# Altium schematic symbol library Diodes.SchLib: 37 symbols
Pins are listed as number, name and electrical type; pins without a type are passive.

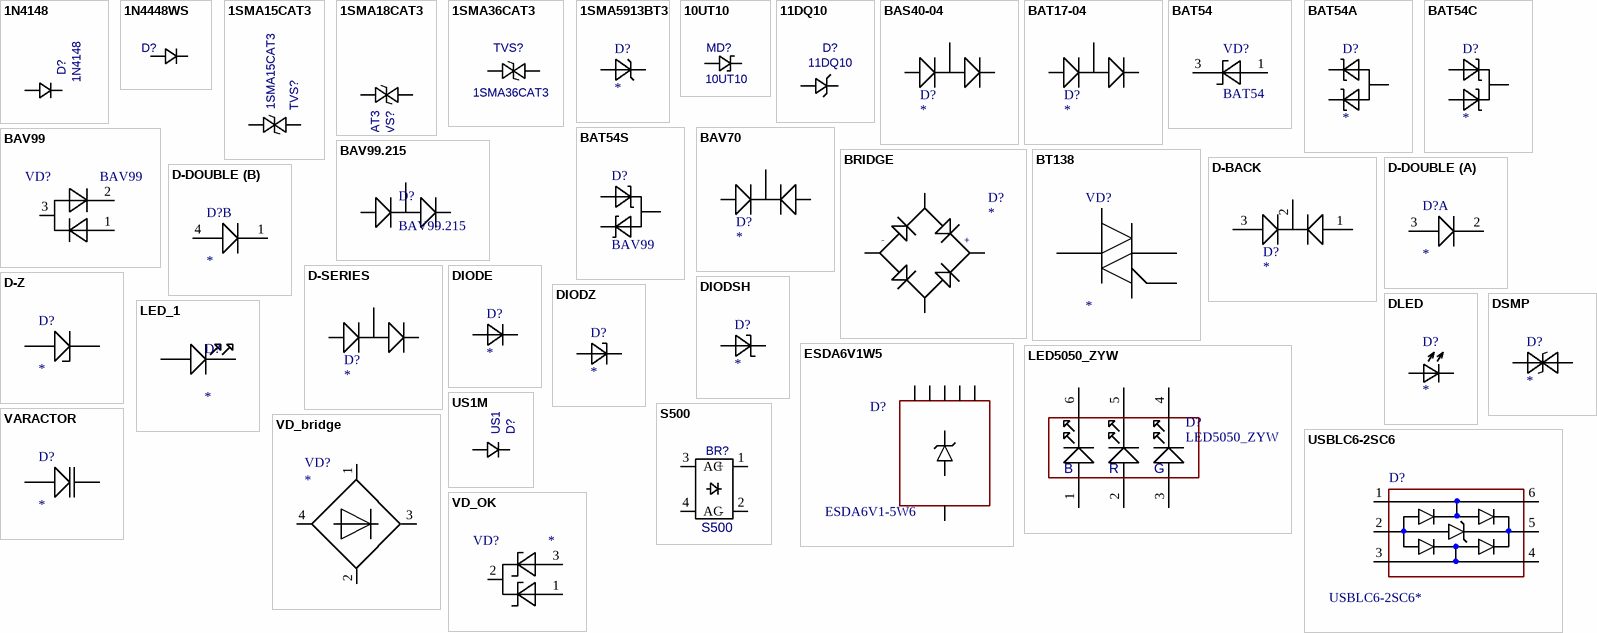
[diagram p0: symbols 1N4148 to VD_OK]

## 1N4148
designator D?
Value: *
footprint SOD80
pins: A, K

## 1N4448WS
designator D?  (value not drawn)
Value: *
footprint SOD323
pins: A, K

## 1SMA15CAT3
designator TVS?
Value: *
footprint SMA
pins: 1, 2

## 1SMA18CAT3
designator TVS?
Value: *
footprint SMA
pins: 1, 2

## 1SMA36CAT3
designator TVS?
Value: *
footprint SMA
pins: 1, 2

## 1SMA5913BT3
designator D?
Вид: Трансил; Voltage: 16V
footprint DO-214AC
pins: 1, 2

## 10UT10
designator MD?
Value: *
footprint RAD_I-PAK
pins: 1 A, 2 K, 3 A hidden, 4 hidden, 5 hidden

## 11DQ10
designator D?
Value: *
footprint DO-41
pins: 1 A, 2 K

## BAS40-04
designator D?
SHOTKI Cd<5pF; Вид: Діод
footprint SOT-23
footprint SOT-323
pins: 1 A1, 2 C2A1, 3 C2

## BAT17-04
designator D?
Вид: Діод
footprint SOT-23
footprint SOT-323
pins: 1, 2, 3

## BAT54
designator VD?
диод Шоттки (Vr=30V, If=200mA, Vf=0.8V@I=100mA, C=10.0pF@1MHz, -55 to +150C). SOT-23; Вид: Діод
footprint SOT23-3L (modify) (SOT23, 3-Leads, Body 2.9x1.3mm, Pitch 0.95mm, Lead Span 2.5mm, IPC High Density)
pins: 1 a, 2 NC hidden, 3 k

## BAT54A
designator D?
Вид: Діод
footprint SOT-23
pins: 1 A1, 2 C1C2, 3 A2

## BAT54C
designator D?
Вид: Діод
footprint SOT-23
pins: 1 A1, 2 A2, 3 C1C2

## BAT54S
designator D?, comment BAV99
Schottky Double Diode; Вид: Діод
footprint SOT-23
pins: 1 A1, 2 C1A2, 3 C2

## BAV70
designator D?
Вид: Діод
footprint SOT-23
footprint SOT-323
pins: 1, 2, 3

## BAV99
designator VD?
High-speed switching diodes 0.215 AMPERES, 100 VOLTS, Cjmax=2pF, SOT-23; Вид: Діод
footprint SOT23-3L (modify) (SOT23, 3-Leads, Body 2.9x1.3mm, Pitch 0.95mm, Lead Span 2.5mm, IPC High Density)
pins: 1, 2, 3

## BAV99.215
designator D?
Вид: Діод
footprint SOT-23 (SOT23, 3-Leads, Body 2,90x2,45mm, Pitch 0,95mm, IPC Medium Density)
pins: 1, 2, 3

## BRIDGE
designator D?
Вид: Діодний міст
footprint DBS
pins: 1 DCPLUS, 2 DCMINUS, 3 ACIN1, 4 ACIN2
text: -; +

## BT138
designator VD?
Вид: Тиристор
footprint TO220AB
pins: 1 T1, 2 T2, 3 G

## D-BACK
designator D?
Вид: Діод
footprint SOT-23
footprint SOT-323
pins: 1, 2, 3

## D-DOUBLE
designator D?
double diode; Вид: Діод
footprint SOT-143B
part A pins: 2 K, 3 A
part B pins: 1 K, 4 A

## D-SERIES
designator D?
Вид: Діод
footprint SOT-23
footprint SOT-323
pins: 1 A1, 2 C2A1, 3 C2

## D-Z
designator D?
Вид: Стабілітрон
footprint SOD-80
pins: A, K

## DIODE
designator D?
Вид: Діод
footprint DO-214AC
footprint MLL41
pins: 1 A, 2 C

## DIODSH
designator D?
Вид: Діод
pins: 1, 2

## DIODZ
designator D?
Вид: Стабілітрон
footprint SOD-80
footprint MLL41
pins: 1, 2

## DLED
designator D?
Вид: Світлодіод
pins: 1, 2

## DSMP
designator D?
Вид: Трансил
footprint DO-214AC
footprint DO-214AA
footprint DO-214AB
pins: 1, 2

## ESDA6V1W5
designator D?, comment ESDA6V1-5W6
TRANSIL ARRAY FOR ESD PROTECTION; Vbr_min=6,1V; Ppp=100W; C=50pF; SOT323-6L; Вид: Трансил
footprint SOT323-6L
pins: 1, 2, 3, 4, 5, 6

## LED5050_ZYW
designator D?
Вид: Світлодіод
footprint SOL6_5050_2
pins: 1 BC, 2 RC, 3 GC, 4 GA, 5 RA, 6 BA
text: B; R; G

## LED_1
designator D?
Вид: Світлодіод
footprint LED-0805
footprint LED-DIP-1
footprint LED-PLANE
pins: A ANODE, K CATHODE

## S500
designator BR?
Value: *
footprint TO-269AA
pins: 1 +, 2 -, 3 AC, 4 AC

## US1M
designator D?
Value: *
footprint DO-214AC(SMA)
pins: 1 A, 2 K

## USBLC6-2SC6
designator D?, comment USBLC6-2SC6*
Very low capacitance ESD protection; Vbr_min=6V; Vpp=15kV (IEC 61000-4-2 level 4); C=3,5pF; SOT23-6L; Вид: Трансил
footprint SOT-23-6
pins: 1, 2, 3, 4, 5, 6

## VARACTOR
designator D?
Вид: Варікап
footprint S0D-323
pins: A, K

## VD_bridge
designator VD?
Вид: Діодний міст
pins: 1, 2, 3, 4

## VD_OK
designator VD?
Вид: Діод
footprint TO-220AB (TO, Thru-Hole, Vertical, Heatsink Mounted; 3 In-Line Leads; Pitch 2.54 mm)
pins: 1, 2, 3